# Altium schematic symbol library TPS6521903RHBR.SchLib: 1 symbol
Pins are listed as number, name and electrical type; pins without a type are passive.

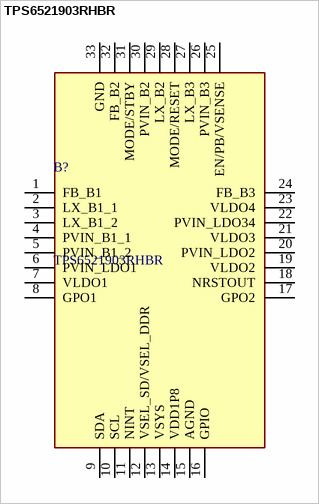
[diagram p0: symbol TPS6521903RHBR]

## TPS6521903RHBR
designator B?
Power Management Specialised - PMIC Integrated power management (PMIC) for Arm Cortex- A53 processors and FPGAs 32-VQFN -40 to 105; Manufacturer_Name: Texas Instruments; Geometry.Height: 1mm; Manufacturer_Part_Number: TPS6521903RHBR; Mouser Part Number: 595-TPS6521903RHBR; Mouser Price/Stock: https://www.mouser.co.uk/ProductDetail/Texas-Instruments/TPS6521903RHBR?qs=63Lh8XYXgjvRr0StD1bCRQ%3D%3D; Arrow Part Number: TPS6521903RHBR; Arrow Price/Stock: https://www.arrow.com/en/products/tps6521903rhbr/texas-instruments?region=nac; Datasheet Link: https://www.ti.com/lit/ds/symlink/tps65219.pdf?ts=1707802117638&ref_url=https%253A%252F%252Fwww.ti.com%252Fproduct%252FTPS65219
footprint QFN50P500X500X100-33N-D
pins: 1 FB_B1, 2 LX_B1_1, 3 LX_B1_2, 4 PVIN_B1_1, 5 PVIN_B1_2, 6 PVIN_LDO1, 7 VLDO1, 8 GPO1, 9 SDA, 10 SCL, 11 NINT, 12 VSEL_SD/VSEL_DDR, 13 VSYS, 14 VDD1P8, 15 AGND, 16 GPIO, 17 GPO2, 18 NRSTOUT, 19 VLDO2, 20 PVIN_LDO2, 21 VLDO3, 22 PVIN_LDO34, 23 VLDO4, 24 FB_B3, 25 EN/PB/VSENSE, 26 PVIN_B3, 27 LX_B3, 28 MODE/RESET, 29 LX_B2, 30 PVIN_B2, 31 MODE/STBY, 32 FB_B2, 33 GND